# Altium schematic symbol library RFPowerTransistors.SchLib: 18 symbols
Pins are listed as number, name and electrical type; pins without a type are passive.

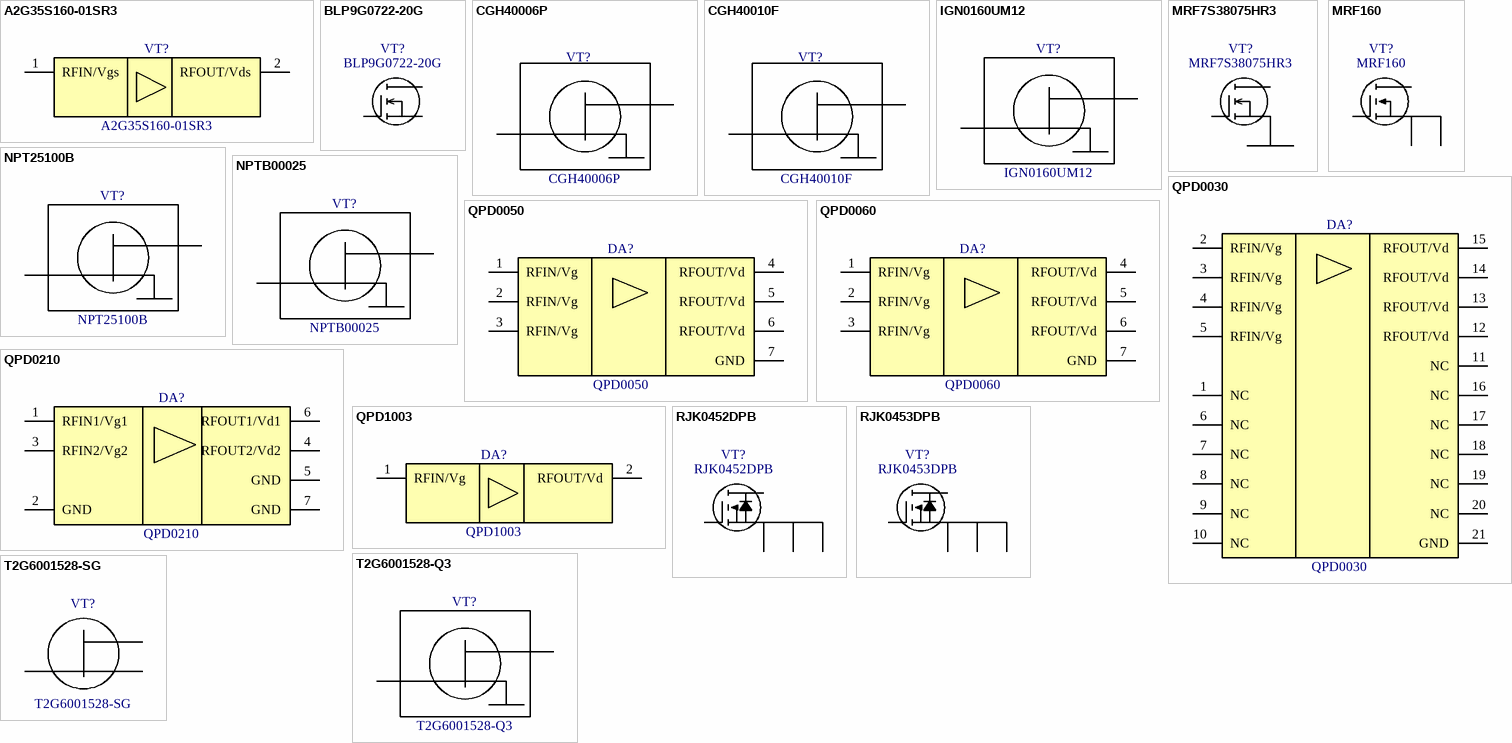
[diagram p0: symbols A2G35S160-01SR3 to T2G6001528-SG]

## A2G35S160-01SR3
designator VT?
RF Power GaN Transistor; Manufacturer: NXP; PartNumber: A2G35S160-01SR3; ComponentLink1Description: Product Page; ComponentLink1URL: https://www.nxp.com/part/A2G35S160-01S#/; ComponentLink2Description: DataSheet; ComponentLink2URL: https://www.nxp.com/docs/en/data-sheet/A2G35S160-01S.pdf
footprint SOT1828-1 (NXP CASE SOT1828-1)
pins: 1 RFIN/Vgs, 2 RFOUT/Vds

## BLP9G0722-20G
designator VT?
20 W plastic LDMOS power transistor for base station applications at frequencies from 100 MHz to 2700 MHz; Manufacturer: Ampleon; PartNumber: BLP9G0722-20G; ComponentLink1Description: Product Page; ComponentLink1URL: https://www.ampleon.com/products/mobile-broadband/0.4-1.0-ghz-transistors/BLP9G0722-20G.html; ComponentLink2Description: DataSheet; ComponentLink2URL: https://www.ampleon.com/documents/data-sheet/BLP9G0722-20_9G0722-20G.PDF
footprint Ampleon SOT1483-1 (plastic; heatsink small outline package; 2 leads)
pins: 1 D, 2 G, 3 S

## CGH40006P
designator VT?
6W RF Power GaN HEMT DC-6GHz 28V; Manufacturer: MACOM; PartNumber: CGH40006P; ComponentLink1Description: Product Page; ComponentLink1URL: https://www.macom.com/products/product-detail/CGH40006S
footprint WolfSpeed 440109 (Package Type 440109 Pill Transistor)
pins: 1 G, 2 D

## CGH40010F
designator VT?
10W RF Power GaN HEMT DC-6GHz 28V; Manufacturer: MACOM; PartNumber: CGH40010F; ComponentLink1Description: Product Page; ComponentLink1URL: https://www.macom.com/products/product-detail/CGH40010
footprint WOLFSPEED 440166 (Package Type 440166 Flange Transistor)
pins: 1 G, 2 D

## IGN0160UM12
designator VT?
C-Band, GaN/SiC, RF Power Transistor 0.1 - 6 GHz  |  12W typ |  55% Efficiency typ |  17dB Gain typ | 50 V | CW; Manufacturer: Integra; PartNumber: IGN0160UM12; ComponentLink1Description: Product Page; ComponentLink2Description: DataSheet; ComponentLink1URL: https://www.integratech.com/gantransistors/ign0160um12; ComponentLink2URL: https://www.integratech.com/_files/ugd/3748d3_64a9db3224f74f57b690af20c6061ec3.pdf
footprint IGN0160UM12 (Integra PACKAGE PL21A1)
pins: D, G

## MRF7S38075HR3
designator VT?
3400-3600 MHz, 12 W Avg., 30 V WiMAX Lateral N-Channel RF Power MOSFET; Manufacturer: NXP; PartNumber: MRF7S38075HR3; ComponentLink1Description: Product Page; ComponentLink1URL: https://www.nxp.com/products/radio-frequency/macro-remote-radio-head/3400-3700-mhz/3400-3600-mhz-12-w-avg-30-v-wimax-lateral-n-channel-rf-power-mosfets:MRF7S38075H; ComponentLink2Description: DataSheet; ComponentLink2URL: https://www.nxp.com/docs/en/data-sheet/MRF7S38075H.pdf
footprint NXP CASE 465-06 STYLE 1 (NXP Flange with screws)
pins: 1 D, 2 G

## MRF160
designator VT?
Broadband Power FET4W, to 500MHz, 28V; Manufacturer: MACOM; PartNumber: MRF160; ComponentLink1Description: Product Page; ComponentLink1URL: https://www.macom.com/products/product-detail/MRF160; ComponentLink2Description: DataSheet; ComponentLink2URL: https://cdn.macom.com/datasheets/MRF160.pdf
footprint MRF160 (MACOM Power FET CASE 249-06)
pins: 1 S, 2 G, 3 S, 4 D

## NPT25100B
designator VT?
GaN Amplifier 28 V, 125 W, 2.1 - 2.7 GHz; Manufacturer: MACOM; PartNumber: NPT25100B; ComponentLink1Description: Product Page; ComponentLink2Description: DataSheet; ComponentLink1URL: https://www.macom.com/products/product-detail/NPT25100B; ComponentLink2URL: https://cdn.macom.com/datasheets/NPT25100.pdf
footprint NPT25100B (MACOM Flange Ceramic)
pins: D, G

## NPTB00025
designator VT?
GaN Power Transistor, 28 V, 25 W DC - 4 GHz; Manufacturer: MACOM; PartNumber: NPTB00025; ComponentLink1Description: Product Page; ComponentLink2Description: DataSheet; ComponentLink1URL: https://www.macom.com/products/product-detail/NPTB00025B; ComponentLink2URL: https://cdn.macom.com/datasheets/NPTB00025.pdf
footprint NPTB00025 (M/A-COM NPTB00025 case AC200B-2)
pins: D, G

## QPD0030
designator DA?
45 W, 48 V, DC – 4 GHz, GaN RF Power Transistor; Manufacturer: Qorvo; PartNumber: QPD0030; ComponentLink1Description: Product Page; ComponentLink1URL: https://www.qorvo.com/products/p/QPD0030; ComponentLink2Description: DataSheet; ComponentLink2URL: https://www.qorvo.com/products/d/da003623
footprint QFN21P50_400X300X90L40X25T260X160N (Quad Flat No-Lead (QFN with Tab), 0.50 mm pitch; rect., 6 pin X 4 pin, 4.00 mm L X 3.00 mm W X 0.90 mm H body)
pins: 1 NC, 2 RFIN/Vg, 3 RFIN/Vg, 4 RFIN/Vg, 5 RFIN/Vg, 6 NC, 7 NC, 8 NC, 9 NC, 10 NC, 11 NC, 12 RFOUT/Vd, 13 RFOUT/Vd, 14 RFOUT/Vd, 15 RFOUT/Vd, 16 NC, 17 NC, 18 NC, 19 NC, 20 NC, 21 GND

## QPD0050
designator DA?
75 W, DC to 3.6 GHz 48V GaN RF Power Transistor; Manufacturer: Qorvo; PartNumber: QPD0050; ComponentLink1Description: Product Page; ComponentLink1URL: https://www.qorvo.com/products/p/QPD0050; ComponentLink2Description: DataSheet; ComponentLink2URL: https://www.qorvo.com/products/d/da003624
footprint SON7P160_660X720X95L110X80T531X360N (Small Outline No-Lead (SON with Tab), 1.60 mm pitch; 6 pin, 6.60 mm L X 7.20 mm W X 0.95 mm H body)
pins: 1 RFIN/Vg, 2 RFIN/Vg, 3 RFIN/Vg, 4 RFOUT/Vd, 5 RFOUT/Vd, 6 RFOUT/Vd, 7 GND

## QPD0060
designator DA?
90 W, DC to 3.6 GHz 48V GaN RF Power Transistor; Manufacturer: Qorvo; PartNumber: QPD0060; ComponentLink1Description: Product Page; ComponentLink1URL: https://www.qorvo.com/products/p/QPD0060; ComponentLink2Description: DataSheet; ComponentLink2URL: https://www.qorvo.com/products/d/da005904
footprint SON7P160_660X720X95L110X80T531X360N (Small Outline No-Lead (SON with Tab), 1.60 mm pitch; 6 pin, 6.60 mm L X 7.20 mm W X 0.95 mm H body)
pins: 1 RFIN/Vg, 2 RFIN/Vg, 3 RFIN/Vg, 4 RFOUT/Vd, 5 RFOUT/Vd, 6 RFOUT/Vd, 7 GND

## QPD0210
designator DA?
2x15 W, 48 V, 1.8 – 2.7 GHz, Dual GaN RF Transistor; Manufacturer: Qorvo; PartNumber: QPD0210; ComponentLink1Description: Product Page; ComponentLink1URL: https://www.qorvo.com/products/p/QPD0210
footprint SON7P160_650X700X95L100X80T531X360N (Small Outline No-Lead (SON with Tab), 1.60 mm pitch; 6 pin, 6.50 mm L X 7.00 mm W X 0.95 mm H body)
pins: 1 RFIN1/Vg1, 2 GND, 3 RFIN2/Vg2, 4 RFOUT2/Vd2, 5 GND, 6 RFOUT1/Vd1, 7 GND

## QPD1003
designator DA?
500W, 50V, 1.2 – 1.4 GHz, GaN RF IMFET; Manufacturer: Qorvo; PartNumber: QPD1003; ComponentLink1Description: Product Page; ComponentLink1URL: https://www.qorvo.com/products/p/QPD1003; ComponentLink2Description: DataSheet; ComponentLink2URL: https://www.qorvo.com/products/d/da003628
footprint QPD1003 (Qorvo Flange RF-565)
pins: 1 RFIN/Vg, 2 RFOUT/Vd

## RJK0452DPB
designator VT?
40V, 45A, 3.5mOhm max.  Silicon N Channel Power MOS FET; Manufacturer: Renesas; PartNumber: RJK0452DPB; ComponentLink1Description: Product Page; ComponentLink1URL: https://www.renesas.com/us/en/products/power-power-management/discrete-power-devices/power-mosfets/rjk0452dpb-nch-single-power-mosfet-40v-45a-35mohm-lfpak; ComponentLink2Description: DataSheet; ComponentLink2URL: https://www.renesas.com/us/en/document/dst/rjk0452dpb-datasheet?r=1342396
footprint DPAK5P127_600X110L62X40T420X420N (DPAK, 1.27 mm pitch; 4 pin, 3.95 mm L X 5.10 mm W X 1.10 mm H body)
pins: 1 S, 2 S, 3 S, 4 G, 5 D

## RJK0453DPB
designator VT?
Silicon N Channel Power MOS FET; Manufacturer: Renesas; PartNumber: RJK0453DPB; ComponentLink1Description: Product Page; ComponentLink1URL: https://www.renesas.com/us/en/products/power-power-management/discrete-power-devices/power-mosfets/rjk0453dpb-nch-single-power-mosfet-40v-55a-23mohm-lfpak; ComponentLink2Description: DataSheet; ComponentLink2URL: https://www.renesas.com/us/en/document/dst/rjk0453dpb-datasheet?r=1342401
footprint DPAK5P127_600X110L62X40T420X420N (DPAK, 1.27 mm pitch; 4 pin, 3.95 mm L X 5.10 mm W X 1.10 mm H body)
pins: 1 S, 2 S, 3 S, 4 G, 5 D

## T2G6001528-Q3
designator VT?
18W, 28V, DC – 6 GHz, GaN RF Power Transistor; Manufacturer: Qorvo; PartNumber: T2G6001528-Q3; ComponentLink1Description: Product Page; ComponentLink2Description: DataSheet; ComponentLink1URL: https://www.qorvo.com/products/p/T2G6001528-Q3; ComponentLink2URL: https://www.qorvo.com/products/d/da003820
footprint T2G6001528-Q3 (Qorvo T2G6001528-Q3)
pins: D, G

## T2G6001528-SG
designator VT?
15W, 28V, DC – 6 GHz, GaN RF Power Transistor; Manufacturer: Qorvo; PartNumber: T2G6001528-SG; ComponentLink1Description: Product Page; ComponentLink1URL: https://www.qorvo.com/products/p/T2G6001528-SG; ComponentLink2Description: DataSheet; ComponentLink2URL: https://www.qorvo.com/products/d/da003827
footprint T2G6001528-SG (Qorvo T2G6001528-SG)
pins: D, G, S